# Altium footprint library ZLM.PcbLib: 58 footprints (part 1 of 4)
Each footprint in its own frame and in the unit in brackets; x right, y up, seen from the top. Pads: shape width x height; smd on the part's side, far side on the other; paste and mask are expansions set on the pad; w line width, h text height; cw(c..) or ccw(c..) is an arc to the next point about the centre after c.
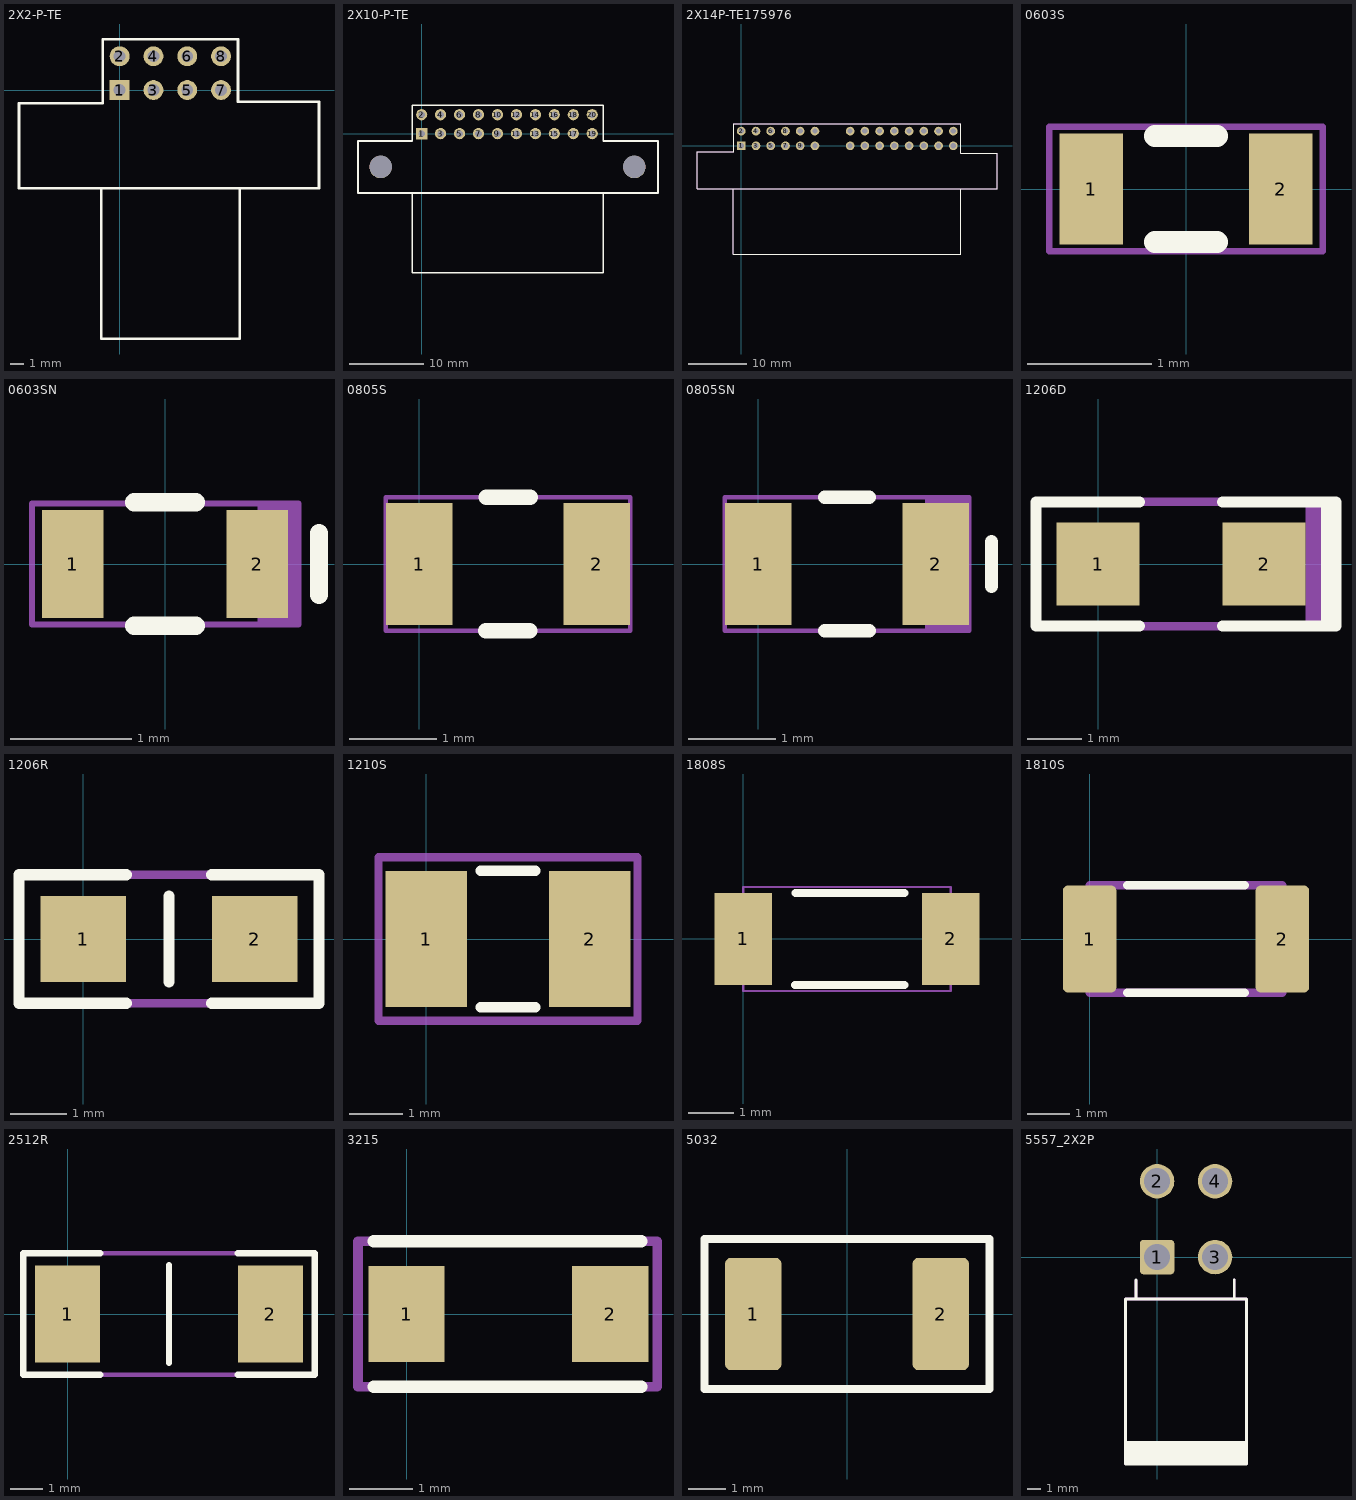
[diagram p0: the footprints below, top view; thin cyan lines are the x and y axes]

## 2X2-P-TE [mm]
pads (8):
  rect 1.5x1.5 hole 0.9: 1(0,0)
  round 1.5 hole 0.9: 2(0,2.54) 3(2.54,0) 4(2.54,2.54) 5(5.08,0) 6(5.08,2.54) 7(7.62,0) 8(7.62,2.54)
Top Overlay:
  lines w0.2: 9.017,-7.424 9.017,-18.69 -1.399,-18.69 -1.399,-7.39 ; -1.399,-7.39 -7.57,-7.39 -7.57,-0.99 -1.27,-0.99 -1.27,3.81 8.89,3.81 8.89,-0.889 14.986,-0.889 14.986,-7.39 -1.399,-7.39

## 2X10-P-TE [mm]
height 0.55
pads (22):
  rect 1.5x1.5 hole 0.9: 1(0,0)
  round 1.5 hole 0.9: 2(0,2.54) 3(2.54,0) 4(2.54,2.54) 5(5.08,0) 6(5.08,2.54) 7(7.62,0) 8(7.62,2.54) 9(10.16,0) 10(10.16,2.54) 11(12.7,0) 12(12.7,2.54) 13(15.24,0) 14(15.24,2.54) 15(17.78,0) 16(17.78,2.54) 17(20.32,0) 18(20.32,2.54) 19(22.86,0) 20(22.86,2.54)
  round 3 hole 3: ""(-5.5,-4.46) ""(28.5,-4.46)
Top Overlay:
  lines w0.254: -1.27,-7.976 -1.27,-18.644 24.308,-18.644 ; 24.333,-18.618 24.333,-7.95 ; -8.534,-7.96 31.674,-7.96 31.674,-0.99 24.333,-0.99 24.333,3.81 -1.27,3.81 -1.27,-0.99 -8.534,-0.99 -8.534,-7.96

## 2X14P-TE175976 [mm]
pads (28):
  rect 1.5x1.5 hole 0.9: 1(0,0)
  round 1.5 hole 0.9: 2(0,2.54) 3(2.54,0) 4(2.54,2.54) 5(5.08,0) 6(5.08,2.54) 7(7.62,0) 8(7.62,2.54) 9(10.16,0) 10(10.16,2.54) 11(12.7,0) 12(12.7,2.54) 13(18.76,0) 14(18.76,2.54) 15(21.3,0) 16(21.3,2.54) 17(23.84,0) 18(23.84,2.54) 19(26.38,0) 20(26.38,2.54) 21(28.92,0) 22(28.92,2.54) 23(31.46,0) 24(31.46,2.54) 25(34,0) 26(34,2.54) 27(36.54,0) 28(36.54,2.54)
Top Overlay:
  lines w0.203: 37.81,-7.424 37.81,-18.69 -1.399,-18.69 -1.399,-7.39 ; -1.399,-7.39 44.069,-7.39 44.069,-1.27 37.81,-1.27 37.81,3.81 -1.27,3.81 -1.27,-0.99 -7.57,-0.99 -7.57,-7.39 -1.399,-7.39
Mechanical 5:
  lines w0.152: -1.397,-7.366 37.846,-7.366 ; -1.397,-7.366 -7.62,-7.366 -7.62,-1.016 -1.27,-1.016 -1.27,3.81 37.846,3.81 37.846,-1.27 44.069,-1.27 44.069,-7.366 37.846,-7.366 ; -1.397,-7.366 -1.397,-18.669 37.846,-18.669 37.846,-7.366
  text ".Designator" at 15.24,-4.953 h0.76

## 0603S [mil]
height 39.37
pads (2):
  rect 20x35 smd: 1(-30,0) 2(30,0)
Top Overlay:
  lines w7: -9.84,-16.73 9.84,-16.73 ; -9.84,16.73 9.84,16.73
Mechanical 5:
  lines w1.97: -43.31,-19.68 -43.31,19.68 43.31,19.68 43.31,-19.68 -43.31,-19.68
  text ".Designator" at -35,-10 h18

## 0603SN [mil]
height 39.37
pads (2):
  rect 20x35 smd: 1(-30,0) 2(30,0)
Top Overlay:
  lines w6: -10,-20 10,-20 ; -10,20 10,20 ; 50,-10 50,10
Mechanical 5:
  rectangle: 30,-20 43.31,19.68
  lines w1.97: -43.31,-19.68 -43.31,19.68 43.31,19.68 43.31,-19.68 -43.31,-19.68
  text ".Designator" at -35,-10 h18

## 0805S [mil]
height 39.37
pads (2):
  rect 30x55 smd: 1(0,0) 2(80,0)
Top Overlay:
  lines w7: 30,-30 49.69,-30 ; 30.32,30 50,30
Mechanical 5:
  lines w1.97: -15,-30 95,-30 95,30 -15,30 -15,-30
  text ".Designator" at -2.48,-8.86 h18

## 0805SN [mil]
height 39.37
pads (2):
  rect 30x55 smd: 1(0,0) 2(80,0)
Top Overlay:
  lines w6: 30,-30 50,-30 ; 30,30 50,30 ; 105,-10 105,10
Mechanical 5:
  rectangle: 75,-30 95,30
  lines w1.97: -15,-30 95,-30 95,30 -15,30 -15,-30
  text ".Designator" at -2.48,-8.86 h18

## 1206D [mil]
pads (2):
  rect 60x60 smd: 1(0,0) 2(120,0)
Top Overlay:
  lines w8: 30,-45 -45,-45 -45,45 30,45 ; 90,-45 172,-45 172,45 90,45 ; 165,-45 165,45
Mechanical 5:
  rectangle: 150,-45 170,45
  lines w6: -45,-45 -45,45 170,45 170,-45 -45,-45
  text ".Designator" at -5,-10 h30

## 1206R [mil]
pads (2):
  rect 60x60 smd: 1(0,0) 2(120,0)
Top Overlay:
  lines w8: 30,-45 -45,-45 -45,45 30,45 ; 60,-30 60,30 ; 90,-45 165,-45 165,45 90,45
Mechanical 5:
  lines w6: -45,-45 165,-45 165,45 -45,45 -45,-45
  text ".Designator" at -10,-15 h30

## 1210S [mil]
pads (2):
  rect 60x100 smd: 1(0,0) 2(120,0)
Top Overlay:
  lines w7.87: 40,-50 80,-50 ; 40,50 80,50
Mechanical 5:
  lines w6: -35,-60 -35,60 155,60 155,-60 -35,-60
  text ".Designator" at -10,-15 h30

## 1808S [mil]
height 39.37
pads (2):
  rect 50x80 smd: 1(0,0) 2(180,0)
Top Overlay:
  lines w7: 45,-40 140,-40 ; 45.31,40 140,40
Mechanical 5:
  lines w1.97: 0,-45 180,-45 180,45 0,45 0,-45
  text ".Designator" at 40,-10 h18

## 1810S [mil]
pads (2):
  rrect20% 50x100 smd: 1(0,0) 2(180,0)
Top Overlay:
  lines w8: 35,-50 145,-50 ; 35,50 145,50
Mechanical 5:
  lines w8: 0,-50 180,-50 180,50 0,50 0,-50
  text ".Designator" at 25,-10 h18

## 2512R [mil]
pads (2):
  rect 80x120 smd: 1(0,0) 2(250,0)
Top Overlay:
  lines w8: 40,-75 -55,-75 -55,75 40,75 ; 125,-60 125,60 ; 210,-75 305,-75 305,75 210,75
Mechanical 5:
  lines w6: -55,-75 -55,75 305,75 305,-75 -55,-75
  text ".Designator" at 20,-10 h30

## 3215 [mm]
pads (2):
  rect 1.2x1.5 smd: 1(0,0) 2(3.2,0)
Top Overlay:
  lines w0.203: -0.508,-1.143 3.683,-1.143 ; -0.508,1.143 3.683,1.143
Mechanical 5:
  lines w0.152: -0.762,-1.143 -0.762,1.143 3.937,1.143 3.937,-1.143 -0.762,-1.143
  text ".Designator" at -0.127,-0.254 h0.76

## 5032 [mm]
pads (2):
  rrect20% 1.5x3 smd: 1(-2.5,0) 2(2.5,0)
Top Overlay:
  lines w0.203: 3.8,-2 -3.8,-2 -3.8,2 3.8,2 3.8,-1.99
Mechanical 5:
  lines w0.152: -3.81,-2.032 3.81,-2.032 3.81,2.032 -3.81,2.032 -3.81,-2.032
  text ".Designator" at -1.905,-0.254 h0.76

## 5557_2X2P [mm]
pads (4):
  rrect20% 2.5x2.5 hole 1.9: 1(0,0)
  round 2.5 hole 1.9: 2(0,5.5) 3(4.2,0) 4(4.2,5.5)
Top Overlay:
  rectangle: -2.286,-15 6.477,-13.335
  lines w0.203: -1.524,-3.048 -1.524,-1.651 ; 5.588,-3.048 5.588,-1.651 ; -2.286,-15 -2.286,-3.048 6.477,-3.048 6.477,-15 0,-15 -2.286,-15
Mechanical 5:
  rectangle: -2.286,-14.986 6.477,-13.335
  lines w0.203: -1.524,-3.048 -1.524,-1.651 ; 5.588,-3.048 5.588,-1.651 ; -2.286,-14.986 -2.286,-3.048 6.477,-3.048 6.477,-14.986 -2.286,-14.986
  text ".Designator" at -0.889,-9.017 h1.02